# Altium footprint library transistor.PcbLib: 3 footprints
Each footprint in its own frame and in the unit in brackets; x right, y up, seen from the top. Pads: shape width x height; smd on the part's side, far side on the other; paste and mask are expansions set on the pad; w line width, h text height; cw(c..) or ccw(c..) is an arc to the next point about the centre after c.
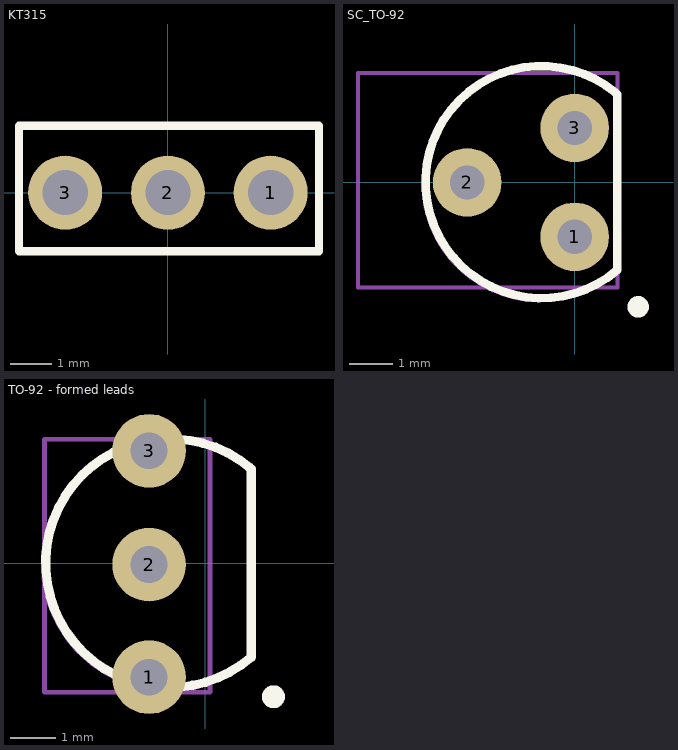
[diagram p0: the footprints below, top view; thin cyan lines are the x and y axes]

## KT315 [mm] "KT315"
height 10
pads (3):
  round 1.8 hole 1.1: 1(2.5,0) 2(0,0) 3(-2.5,0)
Top Overlay:
  lines w0.2: -3.625,-1.425 3.675,-1.425 3.675,1.625 -3.625,1.625 -3.625,-1.425
Mechanical 1:
  lines w0.1: -3.6,-1.45 3.675,-1.45 3.675,1.6 -3.6,1.6 -3.6,-1.45
Mechanical 15:
  lines w0.1: -0.5,0 0.5,0 ; 0,-0.5 0,0.5 ; -3.575,-1.45 -3.575,1.575 3.65,1.575 3.65,-1.45 -3.575,-1.45
3D body "KT-13_1.STEP": height 5.4, standoff -5.6, extent -3.575,-1.425 3.625,1.575

## SC_TO-92 [mm] "TO, Flat Index; 3 In-Line, Axial Leads; Body Dia. 5mm; Leads 0.55 x 0.50 mm (max)"
height 5.2
pads (3):
  round 1.6 hole 0.8: 1(0,-1.27) 2(-2.505,0) 3(0,1.27)
Top Overlay:
  circle w0.25: c1.48,-2.9 r0.125
  lines w0.2: 0.952,2.092 ccw(c-0.771,0.008) 0.995,-2.041 0.995,2.057
Mechanical 1:
  lines w0.1: 1.02,-2.066 cw(c-0.792,-0.017) 1.02,2.032 ; 1.021,-2.074 1.021,2.024 ; -5.05,-2.45 1,-2.45 1,2.55 -5.05,2.55 -5.05,-2.45
Mechanical 15:
  lines w0.1: -5.05,-2.45 -5.05,2.55 1,2.55 1,-2.45 -5.05,-2.45
3D body "User Library-TO-92_SF254.step": height 10, standoff -2.5, extent -5.053,-2.461 0.187,2.539

## TO-92 - formed leads [mm]
height 5.2
pads (3):
  round 1.6 hole 0.8: 1(-1.225,-2.475) 2(-1.225,-0.025) 3(-1.225,2.45)
Top Overlay:
  circle w0.25: c1.48,-2.9 r0.125
  lines w0.2: 0.952,2.092 ccw(c-0.771,0.008) 0.995,-2.041 0.995,2.057
Mechanical 1:
  lines w0.1: 1.02,-2.066 cw(c-0.792,-0.017) 1.02,2.032 ; 1.021,-2.074 1.021,2.024 ; -3.5,-2.8 -3.5,2.7 0.1,2.7 0.1,-2.8 -3.5,-2.8
Mechanical 15:
  lines w0.1: -3.5,-2.8 0.1,-2.8 0.1,2.7 -3.5,2.7 -3.5,-2.8
3D body "TO-92 Formed Leads.stp": height 7.58, standoff -4, extent -3.475,-2.795 0.085,2.745